# EAGLE library part MAX485 (library mathrax-ic)
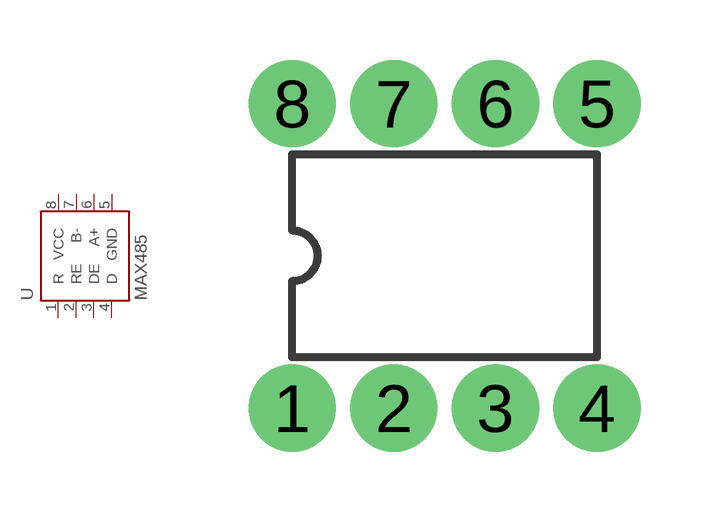
[diagram p0: symbol with the pads of 8PIN_DIP; footprint 8PIN_DIP]

Designator prefix -

## MAX485  [8PIN_DIP]
1  R
2  RE
3  DE
4  D
5  GND
6  A+
7  B-
8  VCC

## Footprint 8PIN_DIP (pad centres in mm)
drill 0.8 pad 2.184: 1 -3.81,-3.81; 2 -1.27,-3.81; 3 1.27,-3.81; 4 3.81,-3.81; 5 3.81,3.81; 6 1.27,3.81; 7 -1.27,3.81; 8 -3.81,3.81